# Altium footprint library DIODES PTH.PcbLib: 160 footprints (part 8 of 10)
Each footprint in its own frame and in the unit in brackets; x right, y up, seen from the top. Pads: shape width x height; smd on the part's side, far side on the other; paste and mask are expansions set on the pad; w line width, h text height; cw(c..) or ccw(c..) is an arc to the next point about the centre after c.
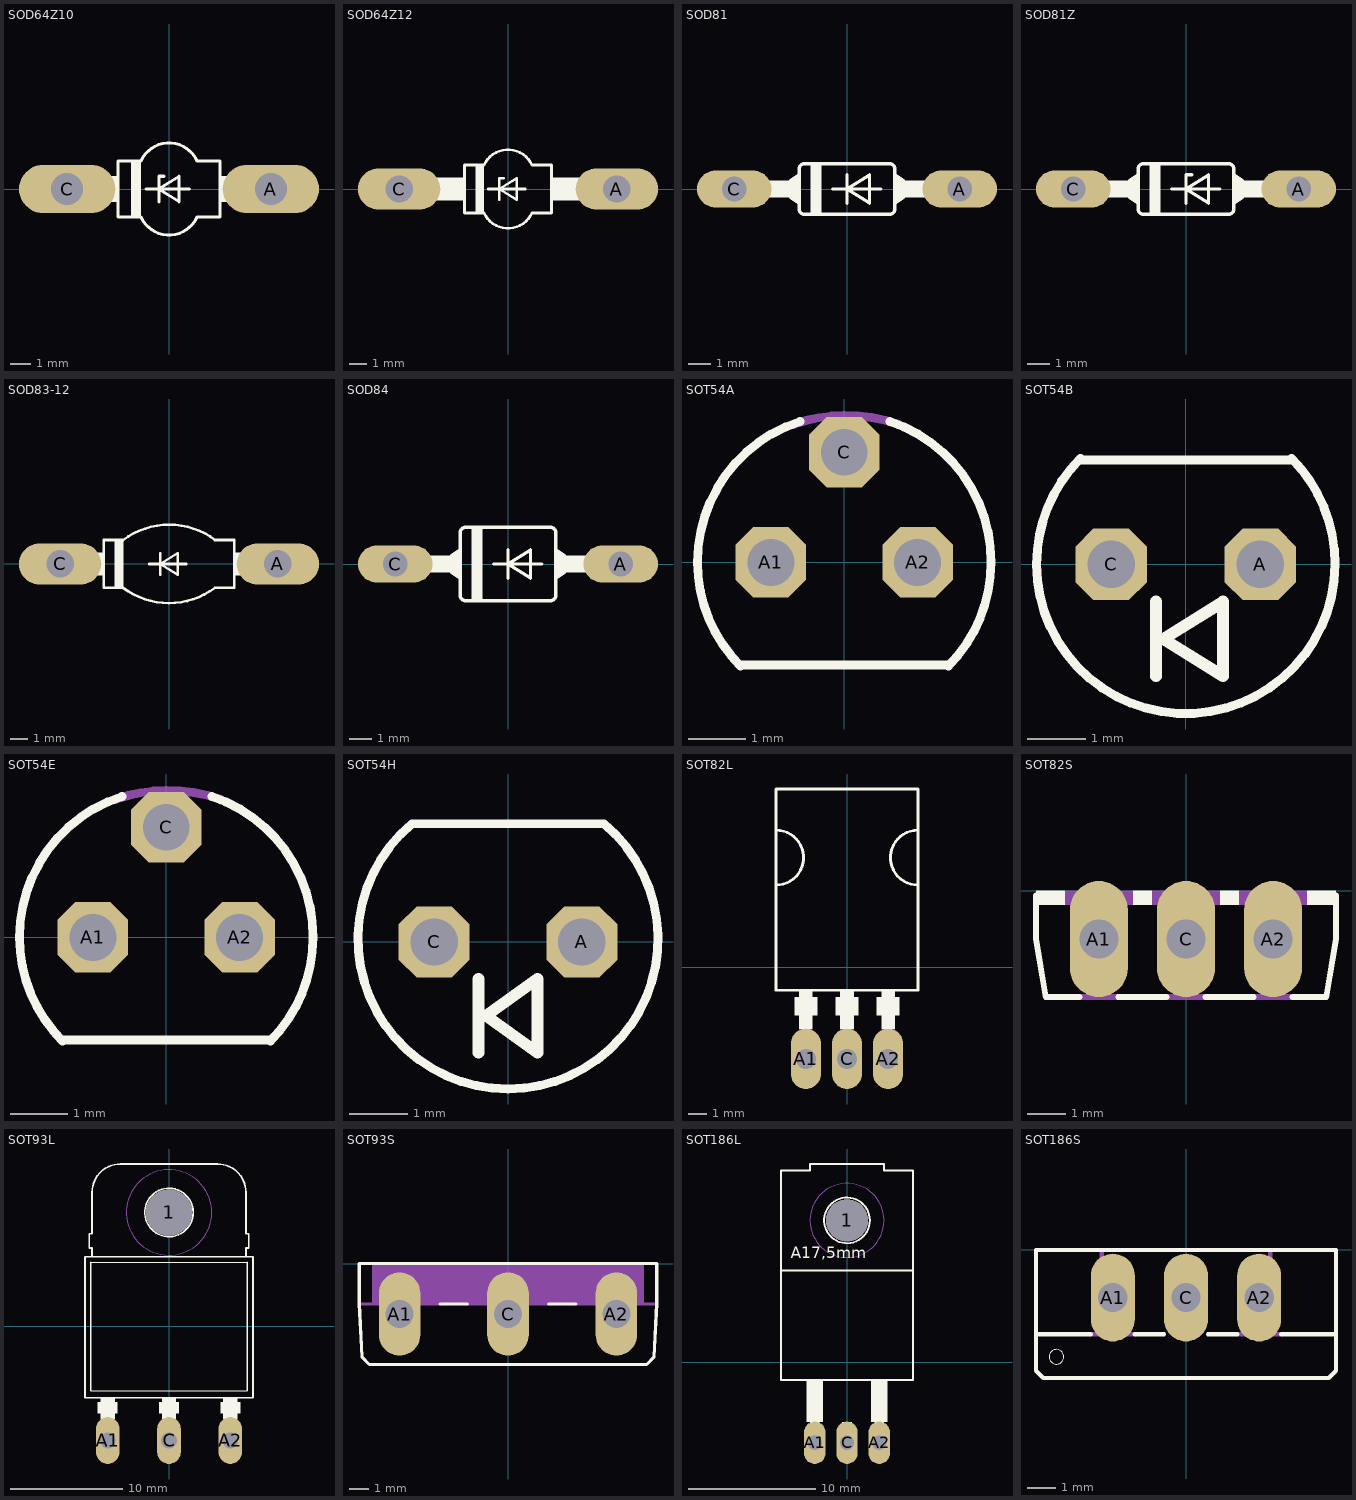
[diagram p7: the footprints below, top view; thin cyan lines are the x and y axes]

## SOD64Z10 [mil]
pads (2):
  oval 189x94.5 hole 63: A(200,0) C(-200,0)
Top Overlay:
  rectangle: -75,-55 -55,55
  rectangle: 100,-26 131,26
  rectangle: -131,-26 -100,26
  lines w6: -45,0 -20,0 ; -20,-25 -20,0 ; -10,25 -20,25 -20,0 ; 40,0 -20,0 ; -20,0 20,-25 20,25 -20,0 ; -100,-55 -100,55 -55,55 cw(c0,30) 55,55 100,55 100,-55 55,-55 cw(c0,-30) -55,-55 -100,-55
Mechanical 16:
  lines w54: -200,0 -140,0 ; 140,0 200,0

## SOD64Z12 [mil]
pads (2):
  oval 189x94.5 hole 63: A(250,0) C(-250,0)
Top Overlay:
  rectangle: -75,-55 -55,55
  rectangle: 100,-26 180,26
  rectangle: -180,-26 -100,26
  lines w6: -45,0 -20,0 ; -20,-25 -20,0 ; -10,25 -20,25 -20,0 ; 40,0 -20,0 ; -20,0 20,-25 20,25 -20,0 ; -100,-55 -100,55 -55,55 cw(c0,30) 55,55 100,55 100,-55 55,-55 cw(c0,-30) -55,-55 -100,-55
Mechanical 16:
  lines w54: -250,0 -190,0 ; 190,0 250,0

## SOD81 [mil]
pads (2):
  oval 132x66 hole 44: A(200,0) C(-200,0)
Top Overlay:
  rectangle: 85,-15 155,15
  rectangle: -155,-15 -85,15
  rectangle: -65,-45 -45,45
  lines w6: -25,0 0,0 ; 0,-25 0,0 ; 0,25 0,0 ; 60,0 0,0 ; -100,-15 -95,-15 ; -100,-15 -85,-25 ; -100,-15 -100,15 ; -100,15 -95,15 ; -100,15 -85,25 ; -95,-15 -85,-15 ; -95,-15 -85,-20 ; -95,15 -85,15 ; -95,15 -85,20 ; -85,-25 -85,-20 ; -85,-25 -85,-35 ccw(c-75,-35) -75,-45 75,-45 ccw(c75,-35) 85,-35 85,-25 ; -85,-20 -85,-15 ; -85,-15 -85,15 ; -85,15 -85,20 ; -85,20 -85,25 ; -85,25 -85,35 cw(c-75,35) -75,45 75,45 cw(c75,35) 85,35 85,25 ; 0,0 40,25 40,-25 0,0 ; 85,-25 85,-20 ; 85,-25 100,-15 ; 85,-20 85,-15 ; 85,-20 95,-15 ; 85,-15 85,15 ; 85,-15 95,-15 ; 85,15 85,20 ; 85,15 95,15 ; 85,20 85,25 ; 85,20 95,15 ; 85,25 100,15 ; 95,-15 100,-15 ; 95,15 100,15 ; 100,-15 100,15
Mechanical 16:
  lines w30: -200,0 -160,0 ; 160,0 200,0

## SOD81Z [mil]
pads (2):
  oval 132x66 hole 44: A(200,0) C(-200,0)
Top Overlay:
  rectangle: 85,-15 155,15
  rectangle: -155,-15 -85,15
  rectangle: -65,-45 -45,45
  lines w6: -25,0 0,0 ; 0,-25 0,0 ; 10,25 0,25 0,0 ; 60,0 0,0 ; -100,-15 -95,-15 ; -100,-15 -85,-25 ; -100,-15 -100,15 ; -100,15 -95,15 ; -100,15 -85,25 ; -95,-15 -85,-15 ; -95,-15 -85,-20 ; -95,15 -85,15 ; -95,15 -85,20 ; -85,-25 -85,-20 ; -85,-25 -85,-35 ccw(c-75,-35) -75,-45 75,-45 ccw(c75,-35) 85,-35 85,-25 ; -85,-20 -85,-15 ; -85,-15 -85,15 ; -85,15 -85,20 ; -85,20 -85,25 ; -85,25 -85,35 cw(c-75,35) -75,45 75,45 cw(c75,35) 85,35 85,25 ; 0,0 40,25 40,-25 0,0 ; 85,-25 85,-20 ; 85,-25 100,-15 ; 85,-20 85,-15 ; 85,-20 95,-15 ; 85,-15 85,15 ; 85,-15 95,-15 ; 85,15 85,20 ; 85,15 95,15 ; 85,20 85,25 ; 85,20 95,15 ; 85,25 100,15 ; 95,-15 100,-15 ; 95,15 100,15 ; 100,-15 100,15
Mechanical 16:
  lines w30: -200,0 -160,0 ; 160,0 200,0

## SOD83-12 [mil]
pads (2):
  oval 189x94.5 hole 63: A(250,0) C(-250,0)
Top Overlay:
  rectangle: -125,-55 -105,55
  rectangle: 150,-26 182,26
  rectangle: -182,-26 -150,26
  lines w6: -105.67,-54.49 ccw(c0,85) 105,-55 150,-55 150,55 105,55 ; -105,-55 -150,-55 -150,55 -105,55 cw(c0.5,-84.96) 106,55 ; -45,0 -20,0 ; -20,-25 -20,0 ; -20,25 -20,0 ; 40,0 -20,0 ; -20,0 20,-25 20,25 -20,0
Mechanical 16:
  lines w54: -250,0 -190,0 ; 190,0 250,0

## SOD84 [mil]
pads (2):
  oval 132x66 hole 44: A(200,0) C(-200,0)
Top Overlay:
  rectangle: -65,-65 -45,65
  rectangle: 85,-15 155,15
  rectangle: -155,-15 -85,15
  lines w6: -25,0 0,0 ; 0,-25 0,0 ; 0,25 0,0 ; 60,0 0,0 ; -100,-15 -95,-15 ; -100,-15 -85,-25 ; -100,-15 -100,15 ; -100,15 -95,15 ; -100,15 -85,25 ; -95,-15 -85,-15 ; -95,-15 -85,-20 ; -95,15 -85,15 ; -95,15 -85,20 ; -85,-25 -85,-20 ; -85,-25 -85,-55 ccw(c-75,-55) -75,-65 75,-65 ccw(c75,-55) 85,-55 85,-25 ; -85,-20 -85,-15 ; -85,-15 -85,15 ; -85,15 -85,20 ; -85,20 -85,25 ; -85,25 -85,55 cw(c-75,55) -75,65 75,65 cw(c75,55) 85,55 85,25 ; 0,0 40,25 40,-25 0,0 ; 85,-25 85,-20 ; 85,-25 100,-15 ; 85,-20 85,-15 ; 85,-20 95,-15 ; 85,-15 85,15 ; 85,-15 95,-15 ; 85,15 85,20 ; 85,15 95,15 ; 85,20 85,25 ; 85,20 95,15 ; 85,25 100,15 ; 95,-15 100,-15 ; 95,15 100,15 ; 100,-15 100,15
Mechanical 16:
  lines w30: -200,0 -160,0 ; 160,0 200,0

## SOT54A [mil]
pads (3):
  oct 48x48 hole 32: A1(-50,0) A2(50,0) C(0,75)
Top Overlay:
  lines w6: -70.71,-70.71 cw(c0,0) -100,0 cw(c0.44,0.32) -30.11,96 ; -70,-70 70,-70 ; 31,96 cw(c0.01,0.93) 100,0 cw(c0.14,-0.35) 71,-70.71
Mechanical 16:
  lines w6: -34.57,94 cw(c-0.46,0.08) 0,100 cw(c2.51,-1.62) 37,94

## SOT54B [mil]
pads (2):
  oct 48x48 hole 32: A(50,0) C(-50,0)
Top Overlay:
  lines w6: -70.71,71 ccw(c0.35,0.15) -100,0 ccw(c0,0) 100,0 ccw(c-0.2,0.49) 71,71 ; -70,70 70,70
  lines w8: -20,-75 -20,-25 ; -15,-50 25,-25 25,-75 -15,-50

## SOT54E [mil]
pads (3):
  oct 48x48 hole 32: A1(-50,0) A2(50,0) C(0,75)
Top Overlay:
  lines w6: -70.71,-70.71 cw(c0,0) -100,0 cw(c0.44,0.32) -30.11,96 ; -70,-70 70,-70 ; 31,96 cw(c0.01,0.93) 100,0 cw(c0.14,-0.35) 71,-70.71
Mechanical 16:
  lines w6: -34.57,94 cw(c-0.46,0.08) 0,100 cw(c2.51,-1.62) 37,94

## SOT54H [mil]
pads (2):
  oct 48x48 hole 32: A(50,0) C(-50,0)
Top Overlay:
  lines w6: -65,80 ccw(c0,2) 65,80 -65,80
  lines w8: -20,-75 -20,-25 ; -15,-50 20,-75 20,-25 -15,-50

## SOT82L [mil]
pads (3):
  oval 66x132 hole 44: A1(-90,-200) A2(90,-200) C(0,-200)
Top Overlay:
  rectangle: 75,-135 105,-50
  rectangle: -15,-135 15,-50
  rectangle: -105,-135 -75,-50
  rectangle: -115,-105 -65,-65
  rectangle: 65,-105 115,-65
  rectangle: -25,-105 25,-65
  lines w6: -155,180 ccw(c-155,240) -155,300 ; -155,180 -155,300 ; -155,180 -155,-50 155,-50 155,180 ; -155,300 -155,390 155,390 155,300 ; 155,180 cw(c155,240) 155,300 ; 155,180 155,300
Mechanical 16:
  rectangle: 75,-195 105,-135
  rectangle: -15,-195 15,-135
  rectangle: -105,-195 -75,-135

## SOT82S [mil]
pads (3):
  oval 60x120 hole 40: A1(-90,-50) A2(90,-50) C(0,-50)
Top Overlay:
  rectangle: -155,-15 -125,0
  rectangle: -55,-15 -35,0
  rectangle: 35,-15 55,0
  rectangle: 125,-15 155,0
  lines w6: -155,-5 -155,-50 -145,-110 -110,-110 ; -70,-110 -20,-110 ; 20,-110 70,-110 ; 110,-110 145,-110 155,-50 155,-5
Mechanical 16:
  rectangle: -125,-15 -55,0
  rectangle: -35,-15 35,0
  rectangle: 55,-15 125,0
  lines w6: -110,-110 -70,-110 ; -20,-110 20,-110 ; 70,-110 110,-110

## SOT93L [mil]
pads (4):
  round 162 hole 162: 1(0,400)
  oval 82.5x165 hole 55: A1(-215,-400) A2(215,-400) C(0,-400)
Top Overlay:
  circle w6: c0,400 r85
  rectangle: -35,-305 35,-265
  rectangle: 190,-325 240,-250
  rectangle: -25,-325 25,-250
  rectangle: -240,-325 -190,-250
  rectangle: 180,-305 250,-265
  rectangle: -250,-305 -180,-265
  lines w2: -275,-225 275,-225 ; -275,225 275,225
  lines w6: -275,-225 -275,225 ; 275,-225 275,225 ; -270,245 270,245 ; -270,245 -295,245 -295,-250 295,-250 295,245 270,245 ; -270,245 -270,275 -280,275 -280,325 -270,325 -270,470 cw(c-170,470) -170,570 170,570 cw(c170,470) 270,470 270,325 280,325 280,275 270,275 270,245
Mechanical 9:
  circle w0: c0,400 r150
Mechanical 10:
  circle w0: c0,400 r150
Mechanical 16:
  rectangle: 190,-400 240,-325
  rectangle: -25,-400 25,-325
  rectangle: -240,-400 -190,-325
  rectangle: -240,-385 -190,-350

## SOT93S [mil]
pads (3):
  oval 82.5x165 hole 55: A1(-215,-100) A2(215,-100) C(0,-100)
Top Overlay:
  lines w6: -135,-80 -80,-80 ; 80,-80 135,-80 ; -295,-80 -295,0 295,0 295,-80 290,-185 275,-200 -275,-200 -290,-185 -295,-80
Mechanical 16:
  rectangle: -270,-80 270,0
  lines w6: -295,-80 -135,-80 ; -80,-80 80,-80 ; 135,-80 295,-80

## SOT186L [mil]
pads (4):
  round 130 hole 130: 1(0,440)
  oval 66x132 hole 44: A1(-100,-250) A2(100,-250) C(0,-250)
Top Overlay:
  circle w6: c0,440 r71
  rectangle: -125,-185 -75,-55
  rectangle: 75,-185 125,-55
  rectangle: 85,-190 115,-185
  rectangle: -115,-190 -85,-185
  rectangle: -15,-190 15,-185
  lines w6: -205,285 -205,-55 205,-55 205,285 ; -205,285 205,285 ; -205,285 -205,595 -115,595 -115,615 115,615 115,595 205,595 205,285
  text "A17,5mm" at -175,310 h60.45
Mechanical 9:
  circle w0: c0,440 r115
Mechanical 10:
  circle w0: c0,440 r115
Mechanical 16:
  rectangle: 85,-255 115,-190
  rectangle: -115,-255 -85,-190
  rectangle: -15,-255 15,-190

## SOT186S [mil]
pads (3):
  oval 60x120 hole 40: A1(-100,-65) A2(100,-65) C(0,-65)
Top Overlay:
  circle w0: c-177,-146 r10
  lines w6: -130,-115 -205,-115 ; -70,-115 -30,-115 ; 30,-115 70,-115 ; 130,-115 205,-115 ; -205,-115 -205,-165 -195,-175 195,-175 205,-165 205,-115 ; -205,-115 -205,0 205,0 205,-115
Mechanical 16:
  lines w6: -130,-115 -115,-115 ; -115,0 -115,-115 ; -70,-115 -115,-115 ; 70,-115 115,-115 ; 115,0 115,-115 ; 130,-115 115,-115